# EAGLE library part GB343133HR (library con-usb)
USB - micro B USB 3.0, Super Speed Receptacle Connector 10 Position Surface Mount, Right Angle
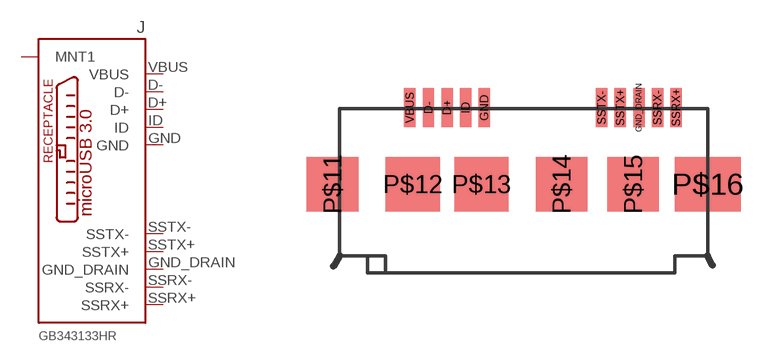
[diagram p15: symbol with the pads of GSB343133HR; footprint GSB343133HR]

Designator prefix J

## GB343133HR (DIGIKEY: GSB343133HRCT-ND; MFR: AMPHENOL; MPN: GSB343133HR)  [GSB343133HR]
D+  D+
D-  D-
GND  GND
GND_DRAIN  GND_DRAIN
ID  ID
P$11  MNT1
P$12  MNT1
P$13  MNT1
P$14  MNT1
P$15  MNT1
P$16  MNT1
SSRX+  SSRX+
SSRX-  SSRX-
SSTX+  SSTX+
SSTX-  SSTX-
VBUS  VBUS

## Footprint GSB343133HR (pad centres in mm)
smd 0.4 x 1.35: D+ 0,2.675; D- -0.65,2.675; GND 1.3,2.675; GND_DRAIN 6.7,2.675; ID 0.65,2.675; SSRX+ 8,2.675; SSRX- 7.35,2.675; SSTX+ 6.05,2.675; SSTX- 5.4,2.675; VBUS -1.3,2.675
smd 1.8 x 1.9: P$11 -4,0; P$14 4,0; P$15 6.5,0
smd 1.9 x 1.9: P$12 -1.2,0; P$13 1.2,0
smd 2.3 x 1.9: P$16 9.1,0